# EAGLE library part BT121 (library jetney-silabs-modules)
Bluetooth 4.0 dual-mode module (Smart Ready) - BT121-A variant has an on-module ceramic chip antenna. BT121-A variant includes keepout/restrict area. Antenna edge of the module should be flush up against the edge of the PCB. See datasheet for variant layout details. IT IS EXTREMELY IMPORTANT THAT YOU FOLLOW THE LAYOUT GUIDELINES FOR THIS MODULE IN ORDER TO ENSURE MAXIMUM RANGE. THIS MEANS THAT YOU NEED A SOLID GROUND PLANE EXTENDING AT LEAST 20 mm ON THE LEFT AND RIGHT SIDES OF THE MODULE, AS SHOWN IN THE DATASHEET. Also, this module contains four internal pins which are used for programming during the manufacturing process. These pins should not be soldered, and so they are left out of the Eagle package. However, they are also shown in the tDocu layer for reference. You should ensure that no unmasked traces or vias are present under these pins. Properly masked traces and vias are safe. BT121 is a Bluetooth Smart Ready module targeted for embedded applications that require both Bluetooth Smart and Classic functionality. It integrates a high performance Bluetooth radio, a low-power ARM Cortex microcontroller and Bluegiga Bluetooth Smart stack software. BT121 can be used as a Bluetooth modem in devices where the end-user application runs on a external host processor, but applications can be loaded also on the embedded micro-controller for truly standalone devices where size and cost needs to be minimized. BT121 Bluetooth Smart Ready Module supports Bluetooth SPP, Apple's iAP1 and iAP2 profiles as well GATT based Bluetooth Smart profiles. https://www.bluegiga.com/en-US/products/bluetooth-4.0-modules/bt121-bluetooth--smart-ready https://github.com/jrowberg/sf-oshw Last updated 2015-03-21 by Jeff Rowberg <jeff@rowberg.net>
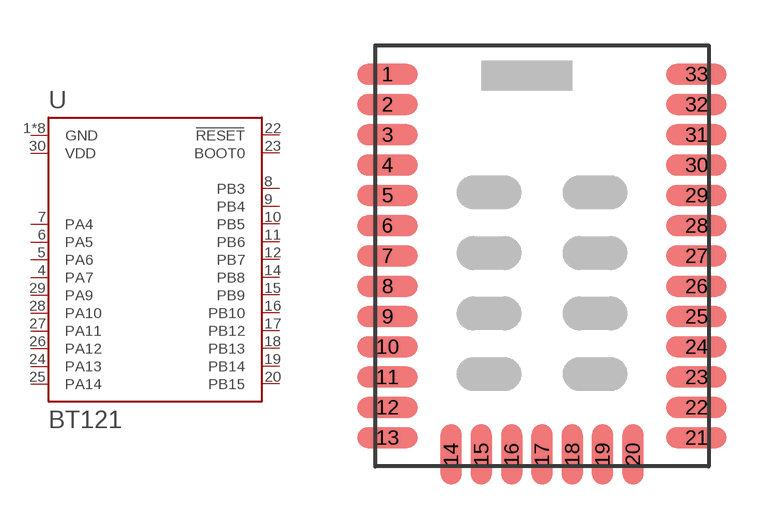
[diagram p23: symbol with the pads of BT121-A; footprint BT121-A]

Designator prefix U

## BT121-A (ANTENNA: On-module ceramic chip antenna)  [BT121-A]
1  GND  pwr
2  GND  pwr
3  GND  pwr
4  PA7
5  PA6
6  PA5
7  PA4
8  PB3
9  PB4
10  PB5
11  PB6
12  PB7
13  GND  pwr
14  PB8
15  PB9
16  PB10
17  PB12
18  PB13
19  PB14
20  PB15
21  GND  pwr
22  RESET  in
23  BOOT0
24  PA13
25  PA14
26  PA12
27  PA11
28  PA10
29  PA9
30  VDD  pwr
31  GND  pwr
32  GND  pwr
33  GND  pwr

## Footprint BT121-A (pad centres in mm)
Bluetooth 4.0 dual-mode module (Smart Ready) - BT121-A variant has an on-module ceramic chip antenna. BT121-A variant includes keepout/restrict area. Antenna edge of the module should be flush up against the edge of the PCB. See datasheet for variant layout details. IT IS EXTREMELY IMPORTANT THAT YOU FOLLOW THE LAYOUT GUIDELINES FOR THIS MODULE IN ORDER TO ENSURE MAXIMUM RANGE. THIS MEANS THAT YOU NEED A SOLID GROUND PLANE EXTENDING AT LEAST 20 mm ON THE LEFT AND RIGHT SIDES OF THE MODULE, AS SHOWN IN THE DATASHEET. Also, this module contains four internal pins which are used for programming during the manufacturing process. These pins should not be soldered, and so they are left out of the Eagle package. However, they are also shown in the tDocu layer for reference. You should ensure that no unmasked traces or vias are present under these pins. Properly masked traces and vias are safe. BT121 is a Bluetooth Smart Ready module targeted for embedded applications that require both Bluetooth Smart and Classic functionality. It integrates a high performance Bluetooth radio, a low-power ARM Cortex microcontroller and Bluegiga Bluetooth Smart stack software. BT121 can be used as a Bluetooth modem in devices where the end-user application runs on a external host processor, but applications can be loaded also on the embedded micro-controller for truly standalone devices where size and cost needs to be minimized. BT121 Bluetooth Smart Ready Module supports Bluetooth SPP, Apple's iAP1 and iAP2 profiles as well GATT based Bluetooth Smart profiles. https://www.bluegiga.com/en-US/products/bluetooth-4.0-modules/bt121-bluetooth--smart-ready https://github.com/jrowberg/sf-oshw Last updated 2015-03-21 by Jeff Rowberg <jeff@rowberg.net>
smd 2 x 0.7: 1 -5.1,6; 2 -5.1,5; 3 -5.1,4; 4 -5.1,3; 5 -5.1,2; 6 -5.1,1; 7 -5.1,0; 8 -5.1,-1; 9 -5.1,-2; 10 -5.1,-3; 11 -5.1,-4; 12 -5.1,-5; 13 -5.1,-6; 21 5.1,-6; 22 5.1,-5; 23 5.1,-4; 24 5.1,-3; 25 5.1,-2; 26 5.1,-1; 27 5.1,0; 28 5.1,1; 29 5.1,2; 30 5.1,3; 31 5.1,4; 32 5.1,5; 33 5.1,6
smd 0.7 x 2: 14 -3,-6.55; 15 -2,-6.55; 16 -1,-6.55; 17 0,-6.55; 18 1,-6.55; 19 2,-6.55; 20 3,-6.55